# EAGLE library part AD8502 (library Opamps)
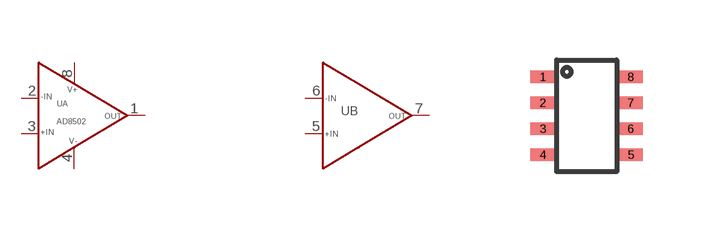
[diagram p4: symbol with the pads of SOT23-8; footprint SOT23-8]

Designator prefix U; gates A=CH1 B=CHGEN

## AD8502  [SOT23-8]
1  A:OUTA
2  A:-INA
3  A:+INA
4  A:GND
5  B:+INB
6  B:-INB
7  B:OUTB
8  A:VCC

## Footprint SOT23-8 (pad centres in mm)
smd 0.61 x 0.305: 1 -1.1,0.975; 2 -1.1,0.325; 3 -1.1,-0.325; 4 -1.1,-0.975; 5 1.1,-0.975; 6 1.1,-0.325; 7 1.1,0.325; 8 1.1,0.975